# Altium footprint library ConnectMedical.PcbLib: 44 footprints (part 1 of 3)
Each footprint in its own frame and in the unit in brackets; x right, y up, seen from the top. Pads: shape width x height; smd on the part's side, far side on the other; paste and mask are expansions set on the pad; w line width, h text height; cw(c..) or ccw(c..) is an arc to the next point about the centre after c.
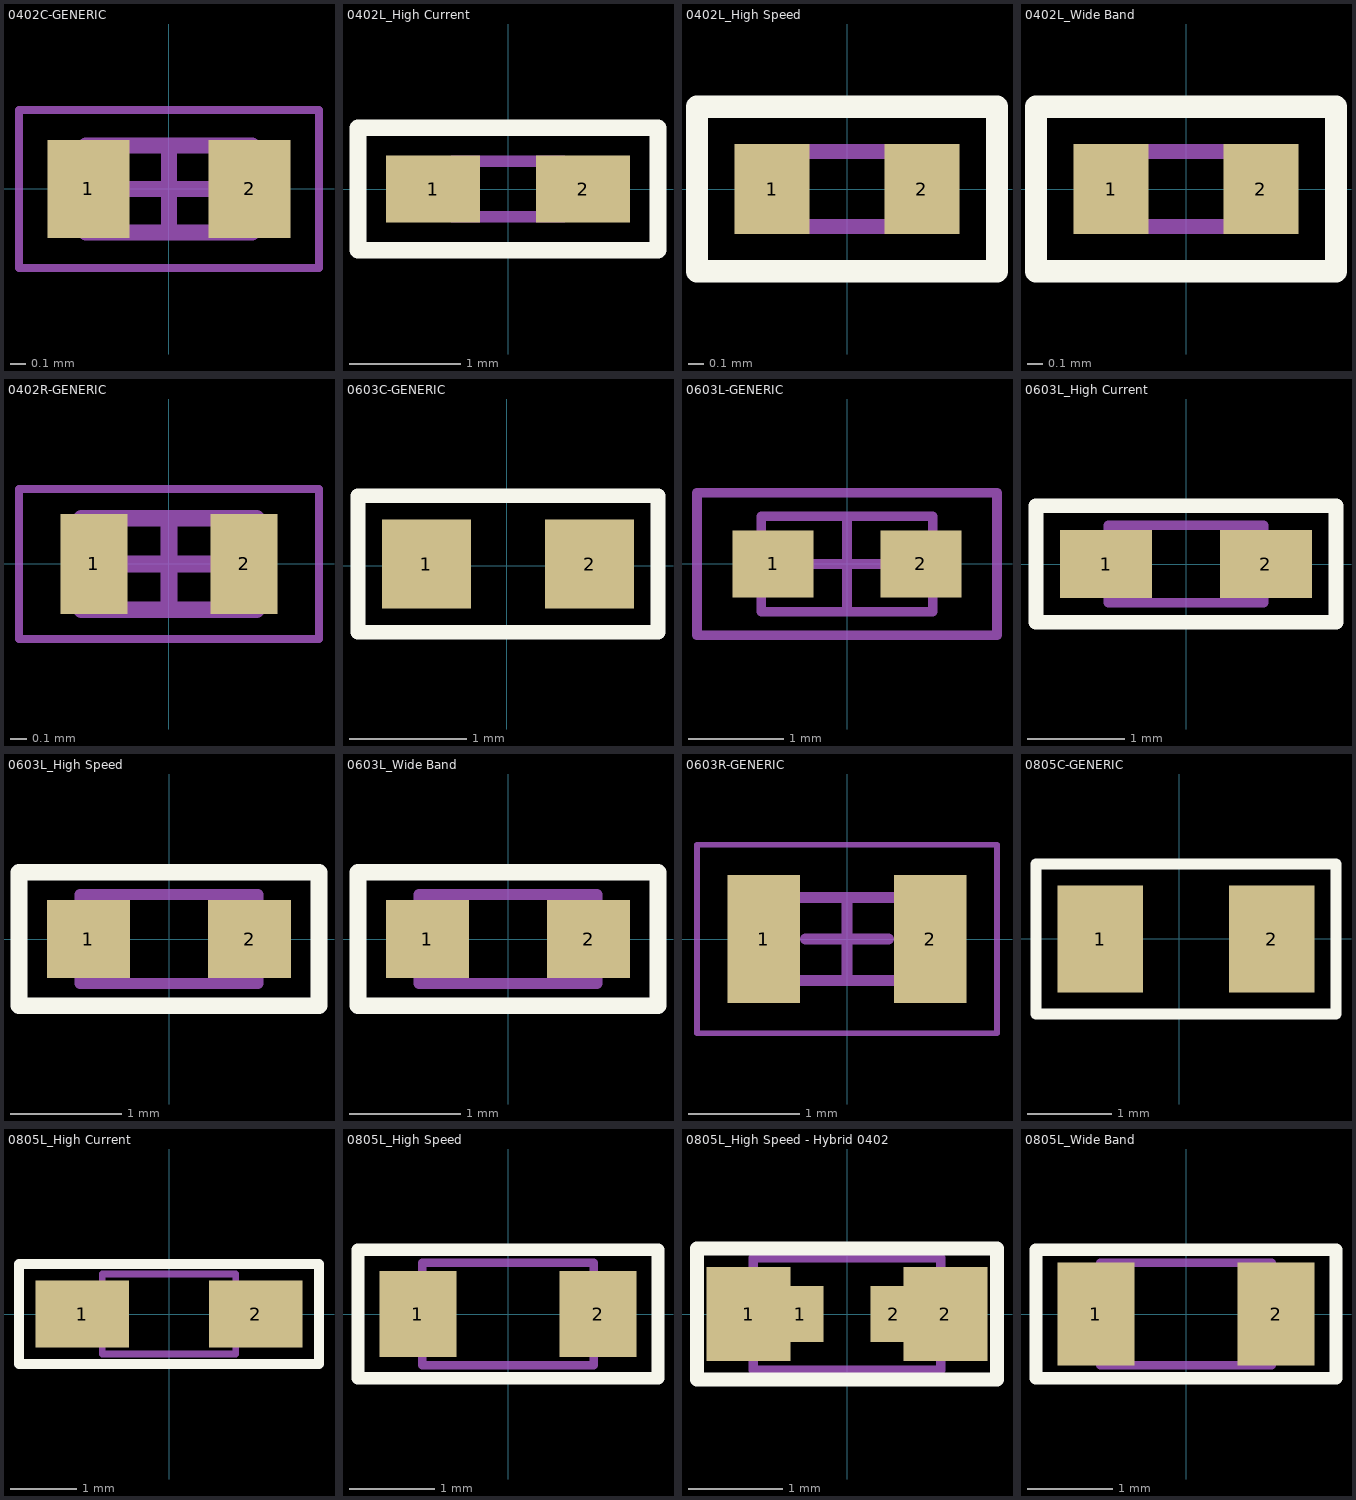
[diagram p0: the footprints below, top view; thin cyan lines are the x and y axes]

## 0402C-GENERIC [mm] "Chip Capacitor, 2-Leads, Body 1.00x0.50mm, IPC Medium Density"
height 0.6
pads (2):
  rect 0.52x0.62 smd: 1(-0.51,0) 2(0.51,0)
Mechanical 13:
  lines w0.1: -0.525,-0.275 0.525,-0.275 0.525,0.275 -0.525,0.275 -0.525,-0.275
Mechanical 15:
  lines w0.05: -0.95,-0.5 0.95,-0.5 0.95,0.5 -0.95,0.5 -0.95,-0.5
  lines w0.1: -0.275,0 0.275,0 ; 0,-0.275 0,0.275
3D body: height 0.6, standoff 0, extent 0.375,-0.275 0.525,0.275
3D body: height 0.6, standoff 0, extent -0.525,-0.275 -0.375,0.275
3D body: height 0.6, standoff 0, extent -0.375,-0.275 0.375,0.275

## 0402L_High Current [mm] "SMD EMI Suppression Ferrite  Bead, body 1.0mmx0.5mm"
height 0.5
pads (2):
  rect 0.85x0.6 smd: 1(-0.675,0) 2(0.675,0)
Top Overlay:
  lines w0.15: -1.35,-0.55 -1.35,0.55 1.35,0.55 1.35,-0.55 -1.35,-0.55
Mechanical 15:
  lines w0.1: -0.5,-0.25 0.5,-0.25 0.5,0.25 -0.5,0.25 -0.5,-0.25
3D body "WE-CBF_0402_CBF.stp": height 0.5, standoff 0, extent -0.5,-0.25 0.5,0.25

## 0402L_High Speed [mm] "SMD EMI Suppression Ferrite  Bead, body 1.0mmx0.5mm"
height 0.5
pads (2):
  rect 0.5x0.6 smd: 1(-0.5,0) 2(0.5,0)
Top Overlay:
  lines w0.15: -1,-0.55 -1,0.55 1,0.55 1,-0.55 -1,-0.55
Mechanical 15:
  lines w0.1: -0.5,-0.25 0.5,-0.25 0.5,0.25 -0.5,0.25 -0.5,-0.25
3D body "WE-CBF_0402_CBF.stp": height 0.5, standoff 0, extent -0.5,-0.25 0.5,0.25

## 0402L_Wide Band [mm] "SMD EMI Suppression Ferrite  Bead, body 1.0mmx0.5mm"
height 0.5
pads (2):
  rect 0.5x0.6 smd: 1(-0.5,0) 2(0.5,0)
Top Overlay:
  lines w0.15: -1,-0.55 -1,0.55 1,0.55 1,-0.55 -1,-0.55
Mechanical 15:
  lines w0.1: -0.5,-0.25 0.5,-0.25 0.5,0.25 -0.5,0.25 -0.5,-0.25
3D body "WE-CBF_0402_CBF.stp": height 0.5, standoff 0, extent -0.5,-0.25 0.5,0.25

## 0402R-GENERIC [mm] "0402 RES"
height 0.4
pads (2):
  rect 0.4x0.6 smd: 1(-0.45,0) 2(0.45,0)
Mechanical 13:
  lines w0.1: -0.525,-0.275 -0.525,0.275 0.525,0.275 0.525,-0.275 -0.525,-0.275
Mechanical 15:
  lines w0.05: -0.9,-0.45 -0.9,0.45 0.9,0.45 0.9,-0.45 -0.9,-0.45
  lines w0.1: -0.275,0 0.275,0 ; 0,-0.275 0,0.275
3D body: height 0.4, standoff 0, extent -0.275,-0.275 0.275,0.275
3D body: height 0.4, standoff 0, extent -0.525,-0.275 -0.275,0.275
3D body: height 0.4, standoff 0, extent 0.275,-0.275 0.525,0.275

## 0603C-GENERIC [mil]
pads (2):
  rect 30x30 smd: 1(-27.16,0.65) 2(27.84,0.65)
Top Overlay:
  lines w5: -50.16,-22.35 50.84,-22.35 50.84,23.65 -50.16,23.65 -50.16,-22.35
3D body: height 19, standoff 0, extent -31.16,-14.35 -15.16,15.65
3D body: height 18, standoff 0, extent -30.16,-13.35 30.84,14.65
3D body: height 19, standoff 0, extent 15.84,-14.35 31.84,15.65
3D body: height 11, standoff 10, extent 17.34,-11.35 22.34,-1.35
3D body: height 11, standoff 10, extent 2.34,-11.35 7.34,-1.35
3D body: height 11, standoff 10, extent 2.34,3.65 7.34,13.65
3D body: height 11, standoff 10, extent -5.16,3.65 -0.16,13.65
3D body: height 11, standoff 10, extent -20.16,3.65 -15.16,13.65
3D body: height 11, standoff 10, extent -12.66,3.65 -7.66,13.65
3D body: height 11, standoff 10, extent 9.84,3.65 14.84,13.65
3D body: height 11, standoff 10, extent 17.34,3.65 22.34,13.65
3D body: height 11, standoff 10, extent -5.16,-11.35 -0.16,-1.35
3D body: height 11, standoff 10, extent -12.66,-11.35 -7.66,-1.35
3D body: height 11, standoff 10, extent -20.16,-11.35 -15.16,-1.35

## 0603L-GENERIC [mm] "Chip Inductor, 2-Leads, Body 1,6x0,8mm"
height 1
pads (2):
  rect 0.85x0.7 smd: 1(-0.775,0) 2(0.775,0)
Mechanical 13:
  lines w0.1: -0.9,-0.5 0.9,-0.5 0.9,0.5 -0.9,0.5 -0.9,-0.5
Mechanical 15:
  lines w0.1: -0.5,0 0.5,0 ; 0,-0.5 0,0.5 ; -1.575,-0.75 1.575,-0.75 1.575,0.75 -1.575,0.75 -1.575,-0.75
3D body "742792623.stp": height 0.79, standoff -0.01, extent -0.8,-0.4 0.8,0.401

## 0603L_High Current [mm] "SMD EMI Suppression Ferrite  Bead, body 1.6mmx0.8mm"
height 0.8
pads (2):
  rect 0.95x0.7 smd: 1(-0.825,0) 2(0.825,0)
Top Overlay:
  lines w0.15: -1.55,-0.6 -1.55,0.6 1.55,0.6 1.55,-0.6 -1.55,-0.6
Mechanical 15:
  lines w0.1: -0.8,-0.4 -0.8,0.4 0.8,0.4 0.8,-0.4 -0.8,-0.4
3D body "WE-CBF_0603_CBF.stp": height 0.8, standoff 0, extent -0.8,-0.4 0.8,0.4

## 0603L_High Speed [mm] "SMD EMI Suppression Ferrite  Bead, body 1.6mmx0.8mm"
height 0.8
pads (2):
  rect 0.75x0.7 smd: 1(-0.725,0) 2(0.725,0)
Top Overlay:
  lines w0.15: -1.35,-0.6 1.35,-0.6 1.35,0.6 -1.35,0.6 -1.35,-0.6
Mechanical 15:
  lines w0.1: -0.8,-0.4 0.8,-0.4 0.8,0.4 -0.8,0.4 -0.8,-0.4
3D body "WE-CBF_0603_CBF.stp": height 0.8, standoff 0, extent -0.8,-0.4 0.8,0.4

## 0603L_Wide Band [mm] "SMD EMI Suppression Ferrite  Bead, body 1.6mmx0.8mm"
height 0.8
pads (2):
  rect 0.75x0.7 smd: 1(-0.725,0) 2(0.725,0)
Top Overlay:
  lines w0.15: -1.35,-0.6 -1.35,0.6 1.35,0.6 1.35,-0.6 -1.35,-0.6
Mechanical 15:
  lines w0.1: -0.8,-0.4 -0.8,0.4 0.8,0.4 0.8,-0.4 -0.8,-0.4
3D body "WE-CBF_0603_CBF.stp": height 0.8, standoff 0, extent -0.8,-0.4 0.8,0.4

## 0603R-GENERIC [mm] "0603 RES"
height 0.5
pads (2):
  rect 0.65x1.15 smd mask+0.08: 1(-0.75,0) 2(0.75,0)
Mechanical 13:
  lines w0.1: -0.75,-0.375 -0.75,0.375 0.75,0.375 0.75,-0.375 -0.75,-0.375
Mechanical 15:
  lines w0.05: -1.35,-0.85 -1.35,0.85 1.35,0.85 1.35,-0.85 -1.35,-0.85
  lines w0.1: -0.375,0 0.375,0 ; 0,-0.375 0,0.375
3D body: height 0.5, standoff 0, extent -0.45,-0.375 0.45,0.375
3D body: height 0.5, standoff 0, extent -0.75,-0.375 -0.45,0.375
3D body: height 0.5, standoff 0, extent 0.45,-0.375 0.75,0.375

## 0805C-GENERIC [mil]
pads (2):
  rect 40x50 smd: 1(-36.81,-0.12) 2(43.19,-0.12)
Top Overlay:
  lines w5: -66.81,-35.12 -66.81,34.88 73.19,34.88 73.19,-35.12 -66.81,-35.12
3D body: height 23, standoff 22, extent -1.81,2.38 5.69,17.38
3D body: height 23, standoff 22, extent 8.19,2.38 15.69,17.38
3D body: height 23, standoff 22, extent 18.19,2.38 25.69,17.38
3D body: height 23, standoff 22, extent -6.31,-15.12 1.19,-0.12
3D body: height 23, standoff 22, extent 3.69,-15.12 11.19,-0.12
3D body: height 23, standoff 22, extent 13.69,-15.12 21.19,-0.12
3D body: height 26, standoff 0, extent 27.19,-25.12 43.19,24.88
3D body: height 23, standoff 22, extent -26.31,-15.12 -18.81,-0.12
3D body: height 23, standoff 22, extent -16.31,-15.12 -8.81,-0.12
3D body: height 26, standoff 0, extent -37.81,-25.12 -21.81,24.88
3D body: height 25, standoff 0, extent -36.81,-24.12 42.19,23.88
3D body: height 23, standoff 22, extent -11.81,2.38 -4.31,17.38
3D body: height 23, standoff 22, extent -21.81,2.38 -14.31,17.38
3D body: height 23, standoff 22, extent -31.81,2.38 -24.31,17.38

## 0805L_High Current [mm] "SMD EMI Suppression Ferrite  Bead, body 2.0mmx1.2mm"
height 0.9
pads (2):
  rect 1.4x1 smd: 1(-1.3,0) 2(1.3,0)
Top Overlay:
  lines w0.15: -2.25,-0.75 2.25,-0.75 2.25,0.75 -2.25,0.75 -2.25,-0.75
Mechanical 15:
  lines w0.1: -1,-0.6 1,-0.6 1,0.6 -1,0.6 -1,-0.6
3D body "WE-CBF_0805_CBF.stp": height 0.93, standoff 0.03, extent -1,-0.6 1,0.6

## 0805L_High Speed [mm] "SMD EMI Suppression Ferrite  Bead, body 2.0mmx1.2mm"
height 0.9
pads (2):
  rect 0.9x1 smd: 1(-1.05,0) 2(1.05,0)
Top Overlay:
  lines w0.15: -1.75,-0.75 1.75,-0.75 1.75,0.75 -1.75,0.75 -1.75,-0.75
Mechanical 15:
  lines w0.1: -1,-0.6 1,-0.6 1,0.6 -1,0.6 -1,-0.6
3D body "WE-CBF_0805_CBF.stp": height 0.93, standoff 0.03, extent -1,-0.6 1,0.6

## 0805L_High Speed - Hybrid 0402 [mm] "SMD EMI Suppression Ferrite  Bead, body 2.0mmx1.2mm"
height 0.9
pads (4):
  rect 0.9x1 smd: 1(-1.05,0) 2(1.05,0)
  rect 0.5x0.6 smd: 1(-0.5,0) 2(0.5,0)
Top Overlay:
  lines w0.15: -1.6,-0.7 1.6,-0.7 1.6,0.7 -1.6,0.7 -1.6,-0.7
Mechanical 15:
  lines w0.1: -1,-0.6 1,-0.6 1,0.6 -1,0.6 -1,-0.6
3D body "WE-CBF_0805_CBF.stp": height 0.93, standoff 0.03, extent -1,-0.6 1,0.6

## 0805L_Wide Band [mm] "SMD EMI Suppression Ferrite  Bead, body 2.0mmx1.2mm"
height 0.9
pads (2):
  rect 0.9x1.2 smd: 1(-1.05,0) 2(1.05,0)
Top Overlay:
  lines w0.15: -1.75,-0.75 1.75,-0.75 1.75,0.75 -1.75,0.75 -1.75,-0.75
Mechanical 15:
  lines w0.1: -1,-0.6 1,-0.6 1,0.6 -1,0.6 -1,-0.6
3D body "WE-CBF_0805_CBF.stp": height 0.93, standoff 0.03, extent -1,-0.6 1,0.6